# Altium schematic symbol library mosfet_p_diode_schottky.SchLib: 1 symbol
Pins are listed as number, name and electrical type; pins without a type are passive.

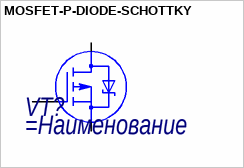
[diagram p0: symbol MOSFET-P-DIODE-SCHOTTKY]

## MOSFET-P-DIODE-SCHOTTKY
designator VT?
=Описание
pins: D, G, S